# Altium schematic symbol library db.SchLib: 33 symbols
Pins are listed as number, name and electrical type; pins without a type are passive.

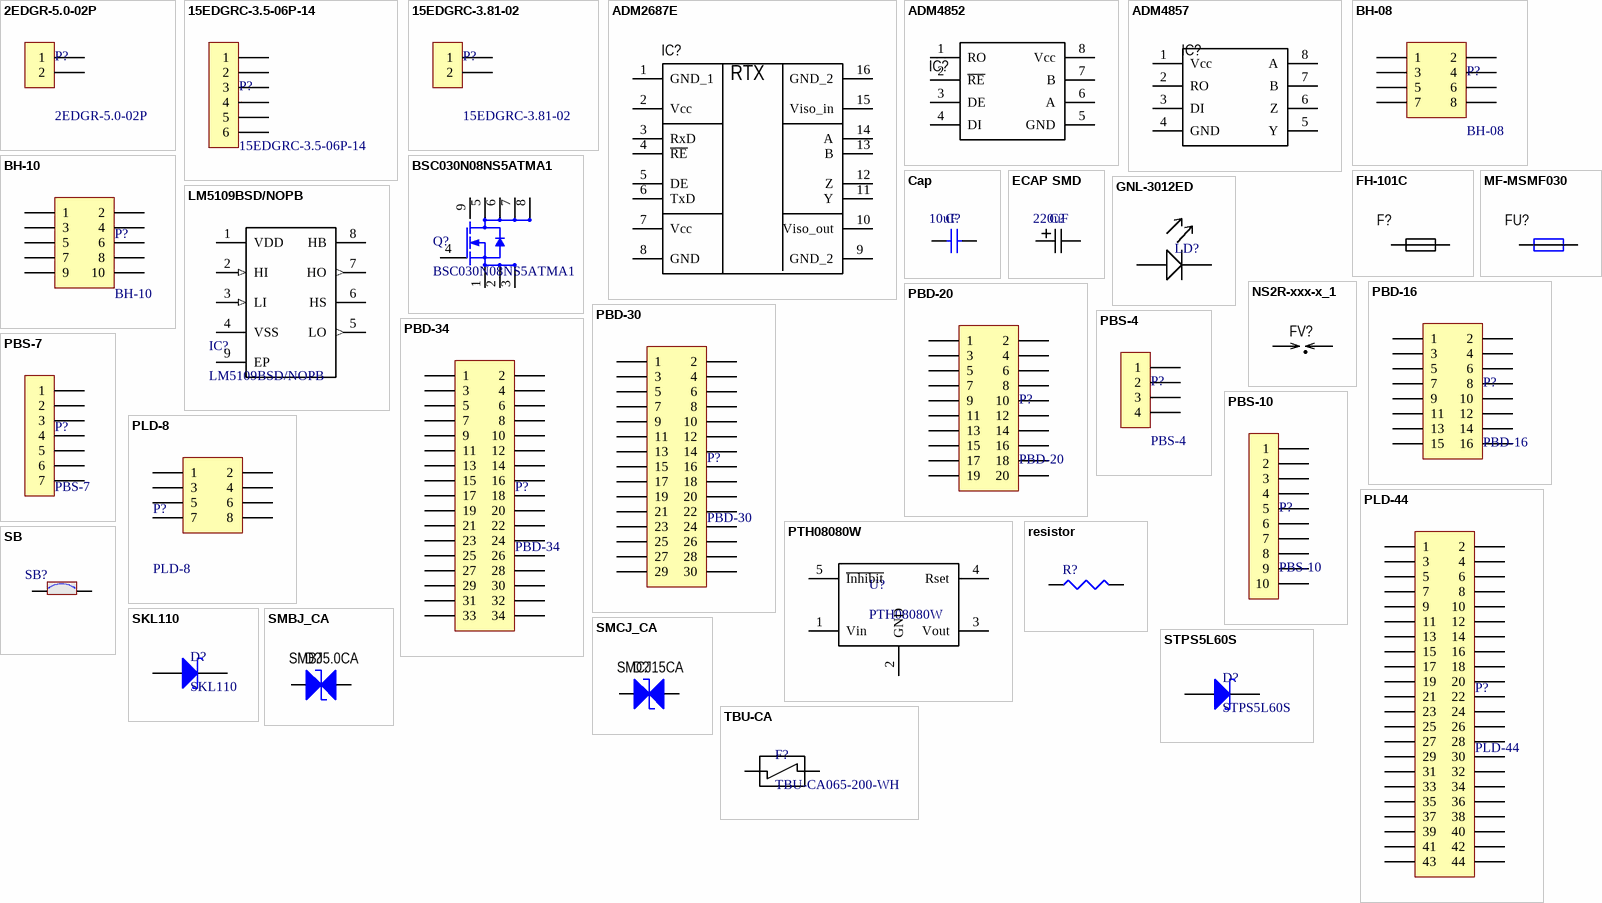
[diagram p0: symbols 2EDGR-5.0-02P to TBU-CA]

## 2EDGR-5.0-02P
designator P?
Разъем штыревой на плату (папа); Производитель: Degson; Номинал: 10А; Напряжение: 300В; Вид монтажа: DIP; Температурный диапазон: -40℃~105℃; Примечание: шаг 5 мм; Название: 2EDGR-5.0-02P; Артикул: 2EDGR-5.0-02P; Тип элемента: Разъем
footprint 2EDGR-5.0-02P (Разъем на плату)
pins: 1, 2

## 15EDGRC-3.5-06P-14
designator P?
Разъем штыревой на плату (папа); Производитель: Degson; Номинал: 8А; Напряжение: 300В; Вид монтажа: DIP; Температурный диапазон: -40℃~105℃; Примечание: шаг 3.5 мм; Название: 15EDGRC-3.5-06P-14; Артикул: 15EDGRC-3.5-06P-14; Тип элемента: Разъем
footprint 15EDGRC-3.5-06P-14 (Разъем на плату)
pins: 1, 2, 3, 4, 5, 6

## 15EDGRC-3.81-02
designator P?
Разъем штыревой на плату (папа); Производитель: Degson; Номинал: 8А; Напряжение: 300В; Вид монтажа: DIP; Температурный диапазон: -40℃~105℃; Примечание: шаг 3.81 мм; Название: 15EDGRC-3.81-02; Артикул: 15EDGRC-3.81-02; Тип элемента: Разъем
footprint 15EDGRC-3.81-02 (Разъем на плату)
pins: 1, 2

## ADM2687E
designator IC?  (value not drawn)
RS-485 Трансивер изолированный; Производитель: Analog Devices; Корпус: SOIC16; Вид монтажа: SMD; Тип элемента: Драйвер интерфейса RS-485, RS-422; Температурный диапазон: -40°C ~ 85°C; Артикул: ADM2687E; Название: ADM2687E
footprint SO16_WIDE(300mil)_13x10_H
pins: 1 GND_1, 2 Vcc (power), 3 RxD, 4 ~{RE}, 5 DE, 6 TxD (power), 7 Vcc, 8 GND, 9 GND_2, 10 Viso_out (power), 11 Y (power), 12 Z (power), 13 B (power), 14 A (power), 15 Viso_in (power), 16 GND_2
text: RTX

## ADM4852
designator IC?, comment ADM4852arz  (value not drawn)
RS-485 Трансивер; Производитель: Analog Devices; Корпус: SOIC8; Вид монтажа: SMD; Тип элемента: Драйвер интерфейса RS-485; Температурный диапазон: -40°C ~ 85°C; Артикул: ADM4852arz; Название: ADM4852arz
footprint SO8_N (SOIC, 8-Leads, Body 4.9x3.9mm, Pitch 1.27mm, IPC Medium Density)
pins: 1 RO, 2 ~{RE} (power), 3 DE, 4 DI, 5 GND, 6 A (power), 7 B, 8 Vcc

## ADM4857
designator IC?, comment ADM4857arz  (value not drawn)
RS-485 Трансивер; Производитель: Analog Devices; Корпус: SOIC8; Вид монтажа: SMD; Тип элемента: Драйвер интерфейса RS-485; Температурный диапазон: -40°C ~ 85°C; Артикул: ADM4857arz; Название: ADM4857arz
footprint SO8_N (SOIC, 8-Leads, Body 4.9x3.9mm, Pitch 1.27mm, IPC Medium Density)
pins: 1 Vcc, 2 RO (power), 3 DI, 4 GND, 5 Y, 6 Z (power), 7 B, 8 A

## BH-08
designator P?
Разъем штыревой на плату; Производитель: Connfly electronic (Zhenqin); Номинал: 1А; Напряжение: 300В; Вид монтажа: DIP; Температурный диапазон: -55…140; Примечание: шаг 2.54 мм; Название: BH-08; Артикул: BH-08; Тип элемента: Разъем
footprint BH-08 (Разъем на плату)
pins: 1, 2, 3, 4, 5, 6, 7, 8

## BH-10
designator P?
Разъем штыревой на плату; Производитель: Connfly electronic (Zhenqin); Номинал: 1А; Напряжение: 300В; Вид монтажа: DIP; Температурный диапазон: -55…140; Примечание: шаг 2.54 мм; Название: BH-10; Артикул: BH-10; Тип элемента: Разъем
footprint BH-10 (Разъем на плату)
pins: 1, 2, 3, 4, 5, 6, 7, 8, 9, 10

## BSC030N08NS5ATMA1
designator Q?
N - канальный MOSFET; Номинал: 80V/100A; Вид монтажа: SMD; Тип элемента: Полевой транзистор; Температурный диапазон: -40 to +125 °C; Название: BSC030N08NS5ATMA1; Артикул: BSC030N08NS5ATMA1
footprint PG-TDSON-8
pins: 1 S, 2 S, 3 S, 4 G, 5 D, 6 D, 7 D, 8 D, 9 D

## Cap
designator C?, comment 10uF
Керамическийконденсатор; Корпус: 0603 (1608 Metric); Диэлектрик: X5R; Напряжение: 16B; Вид монтажа: SMD; Температурный диапазон: -55 ~ 100; Номинал: 10uF; Тип элемента: Керамический конденсатор
footprint C1608-0603 (Chip Resistor; Body 1.6 x 0.8 mm (LxW typ))
pins: 1, 2

## ECAP SMD
designator C?, comment 220uF
Конденсатор электролитический алюминиевый SMD 8x10.5мм; Название: ECAP SMD; Производитель: JB Capacitors; Напряжение: 25B; Температурный диапазон: -40 ~ 105; Номинал: 220uF; Диэлектрик: Электролит; Вид монтажа: SMD; Тип элемента: Конденсатор электролитический
footprint ECAP SMD 8x10.5
pins: 1, 2

## FH-101C
designator F?  (value not drawn)
Держатель предохранителя 5x20 с крышкой; Производитель: Dragon City Industries; Номинал: 0.75А; Вид монтажа: DIP; Температурный диапазон: -40…85; Название: FH-101C; Артикул: FH-101C; Корпус: 5x20; Тип элемента: держатель предохранителя
footprint FH-101C
pins: 1, 2

## GNL-3012ED
designator LD?  (value not drawn)
Светодиод красный 3мм; Производитель: STMicroelectronics; Вид монтажа: DIP; Название: GNL-3012ED; Артикул: GNL-3012ED; Тип элемента: Светодиод
footprint LED 3mm
pins: 1 K, 2 A

## LM5109BSD/NOPB
designator IC?
Драйвер MOSFET; Номинал: 108V/1A; Вид монтажа: SMD; Тип элемента: Микросхема; Температурный диапазон: -40 to +125 °C; Название: LM5109BSD/NOPB; Артикул: LM5109BSD/NOPB
footprint PSON80P400X80_HS-9N
pins: 1 VDD (power), 2 HI (in), 3 LI (in), 4 VSS (power), 5 LO (out), 6 HS, 7 HO (out), 8 HB (power), 9 EP

## MF-MSMF030
designator FU?  (value not drawn)
PTC Resettable Fuses; Производитель: Bourns; Корпус: 1812; Номинал: 0.3А; Вид монтажа: SMD; Тип элемента: Самовосстанавливающийся предохранитель; Температурный диапазон: -40…85; Напряжение: 13.2В; Название: MF-MSMF030; Артикул: MF-MSMF030
footprint MF-MSMF
pins: 1, 2

## NS2R-xxx-x_1
designator FV?, comment NS2R-75A1-M  (value not drawn)
Газовый разрядник двухэлектродный; Номинал: 75В; Название: NS2R-75A1-M; Артикул: NS2R-75A1-M; Напряжение: 75В; Тип элемента: разрядник двухэлектродный
footprint NS2R-xxx-x (Газовый разрядник двухэлектродный)
pins: 1 R, 2 L

## PBD-16
designator P?
Гнездо на плату; Производитель: Connfly electronic (Zhenqin); Номинал: 1А; Напряжение: 300В; Вид монтажа: DIP; Тип элемента: Разъем; Температурный диапазон: -55…140; Примечание: шаг 2.54 мм; Название: PBD-16; Артикул: PBD-16
footprint PBD-16 (Разъем на плату)
pins: 1, 2, 3, 4, 5, 6, 7, 8, 9, 10, 11, 12, 13, 14, 15, 16

## PBD-20
designator P?
Гнездо на плату; Производитель: Connfly electronic (Zhenqin); Номинал: 1А; Напряжение: 300В; Вид монтажа: DIP; Тип элемента: Разъем; Температурный диапазон: -55…140; Примечание: шаг 2.54 мм; Название: PBD-20; Артикул: PBD-20
footprint PBD-20 (Разъем на плату)
pins: 1, 2, 3, 4, 5, 6, 7, 8, 9, 10, 11, 12, 13, 14, 15, 16, 17, 18, 19, 20

## PBD-30
designator P?
Гнездо на плату; Производитель: Connfly electronic (Zhenqin); Номинал: 1А; Напряжение: 300В; Вид монтажа: DIP; Тип элемента: Разъем; Температурный диапазон: -55…140; Примечание: шаг 2.54 мм; Название: PBD-30; Артикул: PBD-30
footprint PBD-30 (Разъем на плату)
pins: 1, 2, 3, 4, 5, 6, 7, 8, 9, 10, 11, 12, 13, 14, 15, 16, 17, 18, 19, 20, 21, 22, 23, 24, 25, 26, 27, 28, 29, 30

## PBD-34
designator P?
Гнездо на плату; Производитель: Connfly electronic (Zhenqin); Номинал: 1А; Напряжение: 300В; Вид монтажа: DIP; Тип элемента: Разъем; Температурный диапазон: -55…140; Примечание: шаг 2.54 мм; Название: PBD-34; Артикул: PBD-34
footprint PBD-34 (Разъем на плату)
pins: 1, 2, 3, 4, 5, 6, 7, 8, 9, 10, 11, 12, 13, 14, 15, 16, 17, 18, 19, 20, 21, 22, 23, 24, 25, 26, 27, 28, 29, 30, 31, 32, 33, 34

## PBS-4
designator P?
Гнездо на плату; Производитель: Connfly electronic (Zhenqin); Номинал: 1А; Напряжение: 300В; Вид монтажа: DIP; Тип элемента: Разъем; Температурный диапазон: -55…140; Примечание: шаг 2.54 мм; Название: PBS-4; Артикул: PBS-4
footprint PBS-4 (Разъем на плату)
pins: 1, 2, 3, 4

## PBS-7
designator P?
Гнездо на плату; Производитель: Connfly electronic (Zhenqin); Номинал: 1А; Напряжение: 300В; Вид монтажа: DIP; Тип элемента: Разъем; Температурный диапазон: -55…140; Примечание: шаг 2.54 мм; Название: PBS-7; Артикул: PBS-7
footprint PBS-7 (Разъем на плату)
pins: 1, 2, 3, 4, 5, 6, 7

## PBS-10
designator P?
Гнездо на плату; Производитель: Connfly electronic (Zhenqin); Номинал: 1А; Напряжение: 300В; Вид монтажа: DIP; Тип элемента: Разъем; Температурный диапазон: -55…140; Примечание: шаг 2.54 мм; Название: PBS-10; Артикул: PBS-10
footprint PBS-10 (Разъем на плату)
pins: 1, 2, 3, 4, 5, 6, 7, 8, 9, 10

## PLD-8
designator P?
Разъем штыревой на плату (папа); Производитель: Connfly electronic (Zhenqin); Номинал: 1А; Напряжение: 300В; Вид монтажа: DIP; Температурный диапазон: -55…140; Примечание: шаг 2.54 мм; Название: PLD-8; Артикул: PLD-8; Тип элемента: Разъем
footprint PLD-8 (Разъем на плату)
pins: 1, 2, 3, 4, 5, 6, 7, 8

## PLD-44
designator P?
Разъем штыревой на плату (папа); Производитель: Connfly electronic (Zhenqin); Номинал: 1А; Напряжение: 300В; Вид монтажа: DIP; Температурный диапазон: -55…140; Примечание: шаг 2.54 мм; Название: PLD-44; Артикул: PLD-44; Тип элемента: Разъем
footprint PLD-44 (Разъем на плату)
pins: 1, 2, 3, 4, 5, 6, 7, 8, 9, 10, 11, 12, 13, 14, 15, 16, 17, 18, 19, 20, 21, 22, 23, 24, 25, 26, 27, 28, 29, 30, 31, 32, 33, 34, 35, 36, 37, 38, 39, 40, 41, 42, 43, 44

## PTH08080W
designator U?
DC/DC преобразователь; Производитель: Texas Instruments; Номинал: 2.25А; Напряжение: 18/0.9-5.5В; Вид монтажа: DIP; Тип элемента: Модуль питания; Температурный диапазон: -40°C ~ 85°C; Название: PTH08080W; ComponentLink: http://www.digikey.com/product-detail/en/AD22100STZ/AD22100STZ-ND/936657; Артикул: PTH08080W
footprint PTH08080W
pins: 1 Vin, 2 GND, 3 Vout (power), 4 Rset (power), 5 ~{Inhibit} (power)

## resistor
designator R?
SMD резистор; Производитель: 1%; Корпус: 0603 (1608 Metric); Точность: 1%; Название: Резистор; Вид монтажа: SMD; Тип элемента: Резистор
footprint R1608-0603 (Chip Resistor; Body 1.6 x 0.8 mm (LxW typ))
pins: 1, 2

## SB
designator SB?  (no BOM)
Перемычка
footprint SOLDER-BRIDGE_R0603-0R
pins: 1, 2

## SKL110
designator D?
Диод Шоттки 100В 1А; Производитель: STMicroelectronics; Корпус: do-214ab/smc; Вид монтажа: SMD; Название: SKL110; Артикул: SKL110; Напряжение: 100В; Тип элемента: Диод шоттки
footprint SODFL370X140-2N
pins: 1 K, 2 A

## SMBJ_CА
designator D?, comment SMBJ5.0CA
Супрессор двунаправленный; Производитель: ST MICROELECTRONICS CO., LTD.; Корпус: DO-214AA, SMB; Номинал: 5В; Вид монтажа: SMD; Тип элемента: Защитный диод; Температурный диапазон: -55°C ~ 150°C; Название: SMBJ5.0CA; Артикул: SMBJ5.0CA; ComponentLink: http://www.digikey.com/product-detail/en/SMBJ5.0CA/SMBJ5.0CABTR-ND/2254207
footprint SMB_H
pins: 1 K, 2 A

## SMCJ_CА
designator D?, comment SMCJ15CA
Супрессор двунаправленный; Производитель: ST MICROELECTRONICS CO., LTD.; Корпус: DO-214AB, SMC; Номинал: 15В; Вид монтажа: SMD; Тип элемента: Защитный диод; Температурный диапазон: -55°C ~ 150°C; Название: SMCJ15CA; Артикул: SMCJ15CA; ComponentLink: http://www.digikey.com/product-detail/en/SMBJ5.0CA/SMBJ5.0CABTR-ND/2254207
footprint SMCJ_CA (DO-214-AB/SMC; 2 C-Bend Leads; Body 7.9 x 5.9 mm, inc. leads (LxW))
pins: 1 K, 2 A

## STPS5L60S
designator D?
Диод Шоттки 60В 5А [SMC]; Производитель: STMicroelectronics; Корпус: do-214ab/smc; Вид монтажа: SMD; Название: STPS5L60S; Артикул: STPS5L60S; Напряжение: 60В; Тип элемента: Диод шоттки
footprint SMCJ (DO-214-AB/SMC; 2 C-Bend Leads; Body 7.9 x 5.9 mm, inc. leads (LxW))
pins: 1 K, 2 A

## TBU-CA
designator F?, comment TBU-CA065-200-WH
Самовосстанавливающийся предохранитель; Производитель: Bourns; Корпус: DFN; Номинал: 0.4A; Вид монтажа: SMD; Температурный диапазон: -40 to +125 °C; Название: TBU-CA065-200-WH; Артикул: TBU-CA065-200-WH; Тип элемента: Самовосстанавливающийся предохранитель
footprint TBU_CA
pins: 0, 1